# Altium schematic symbol library SCH - POWER - SUPPLY - LMZ23605TZ.SCHLIB: 1 symbol
Pins are listed as number, name and electrical type; pins without a type are passive.

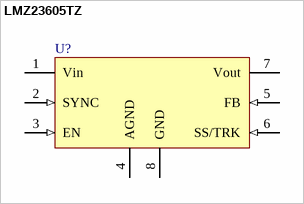
[diagram p0: symbol LMZ23605TZ]

## LMZ23605TZ
designator U?
LMZ23605TZ/NOPB
footprint 7TO-PMOD
pins: 1 Vin (power), 2 SYNC (in), 3 EN (in), 4 AGND (power), 5 FB (in), 6 SS/TRK (in), 7 Vout (power), 8 GND (power)